# Altium schematic symbol library SCH - POWER - LINEAR VREG - TI TPS77615-EP_PWP_20.SchLib: 1 symbol
Pins are listed as number, name and electrical type; pins without a type are passive.

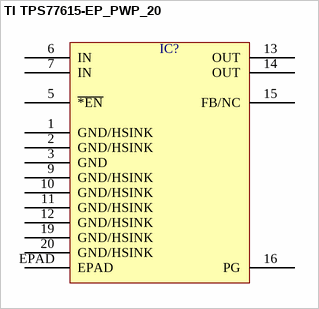
[diagram p0: symbol TI TPS77615-EP_PWP_20]

## TI TPS77615-EP_PWP_20
designator IC?  (value not drawn)
pins: 1 GND/HSINK, 2 GND/HSINK, 3 GND, 5 ~{*EN}, 6 IN, 7 IN, 9 GND/HSINK, 10 GND/HSINK, 11 GND/HSINK, 12 GND/HSINK, 13 OUT, 14 OUT, 15 FB/NC, 16 PG, 19 GND/HSINK, 20 GND/HSINK, EPAD